# Altium footprint library NeoPixel.PcbLib: 1 footprints
Each footprint in its own frame and in the unit in brackets; x right, y up, seen from the top. Pads: shape width x height; smd on the part's side, far side on the other; paste and mask are expansions set on the pad; w line width, h text height; cw(c..) or ccw(c..) is an arc to the next point about the centre after c.
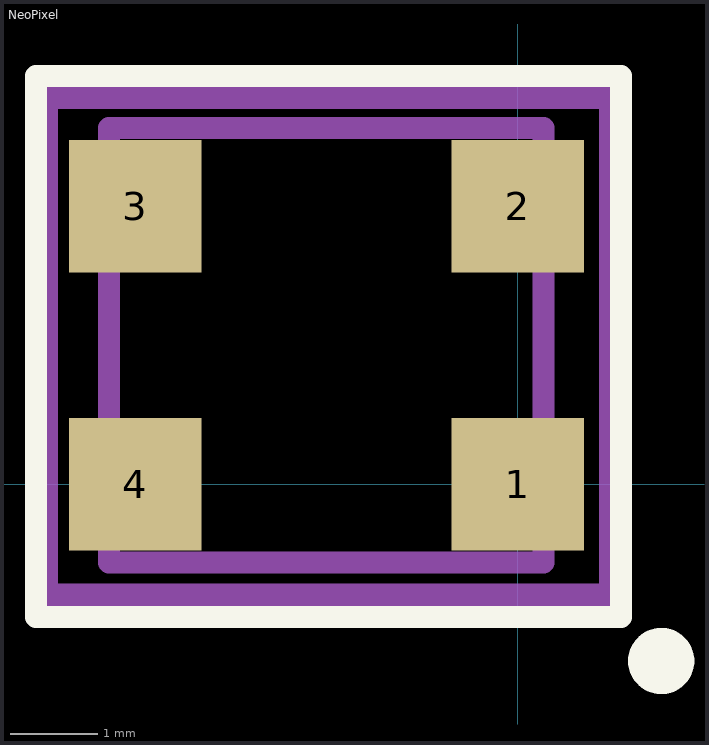
[diagram p0: the footprint, top view; thin cyan lines are the x and y axes]

## NeoPixel [mil]
pads (4):
  rect 60x60 smd: 1(0,0) 2(0,125.98) 3(-173.23,125.98) 4(-173.23,0)
Top Overlay:
  circle w20: c65,-80 r5
  lines w10: -218.23,-60 -218.23,185 46.77,185 46.77,-60 -218.23,-60
Mechanical 1:
  lines w10: -185.04,-35.43 -185.04,161.42 11.81,161.42 11.81,-35.43 -185.04,-35.43
  text ".Designator" at -60,-10 h60
Mechanical 15:
  lines w10: -213.23,-50 -213.23,175 41.77,175 41.77,-50 -213.23,-50
3D body: height 62.99, standoff 0, extent -183.23,-35 11.77,160